# Altium footprint library TSSOP-20.PcbLib: 1 footprints
Each footprint in its own frame and in the unit in brackets; x right, y up, seen from the top. Pads: shape width x height; smd on the part's side, far side on the other; paste and mask are expansions set on the pad; w line width, h text height; cw(c..) or ccw(c..) is an arc to the next point about the centre after c.
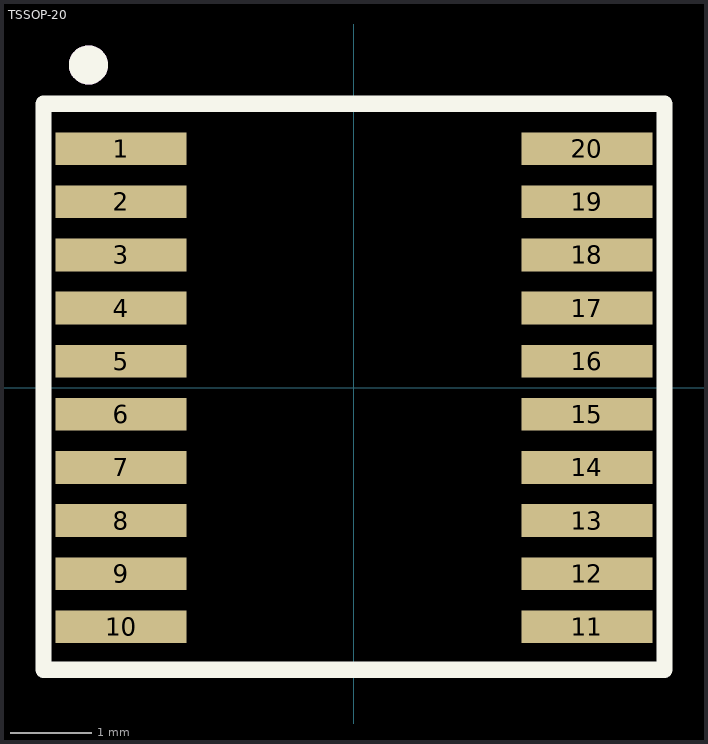
[diagram p0: the footprint, top view; thin cyan lines are the x and y axes]

## TSSOP-20 [mm]
pads (20):
  rect 1.6x0.4 smd: 1(-2.85,2.925) 2(-2.85,2.275) 3(-2.85,1.625) 4(-2.85,0.975) 5(-2.85,0.325) 6(-2.85,-0.325) 7(-2.85,-0.975) 8(-2.85,-1.625) 9(-2.85,-2.275) 10(-2.85,-2.925) 11(2.85,-2.925) 12(2.85,-2.275) 13(2.85,-1.625) 14(2.85,-0.975) 15(2.85,-0.325) 16(2.85,0.325) 17(2.85,0.975) 18(2.85,1.625) 19(2.85,2.275) 20(2.85,2.925)
Top Overlay:
  circle w0.254: c-3.25,3.95 r0.112
  lines w0.2: -3.8,-3.45 3.8,-3.45 3.8,3.475 -3.8,3.475 -3.8,-3.45
Top Assembly:
  circle w0.254: c-3.25,3.95 r0.112
  lines w0.1: -3.8,-3.45 -3.8,3.45 3.8,3.45 3.8,-3.45 -3.8,-3.45
  text "'.Designator'" at -3.965,-0.292 h0.7
3D body "User Library-tssop-20-1.STEP": height 1.2, standoff 0, extent -3.3,-3.3 3.3,3.3